# Altium footprint library PAD_3mm without vias.pcblib: 1 footprints
Each footprint in its own frame and in the unit in brackets; x right, y up, seen from the top. Pads: shape width x height; smd on the part's side, far side on the other; paste and mask are expansions set on the pad; w line width, h text height; cw(c..) or ccw(c..) is an arc to the next point about the centre after c.
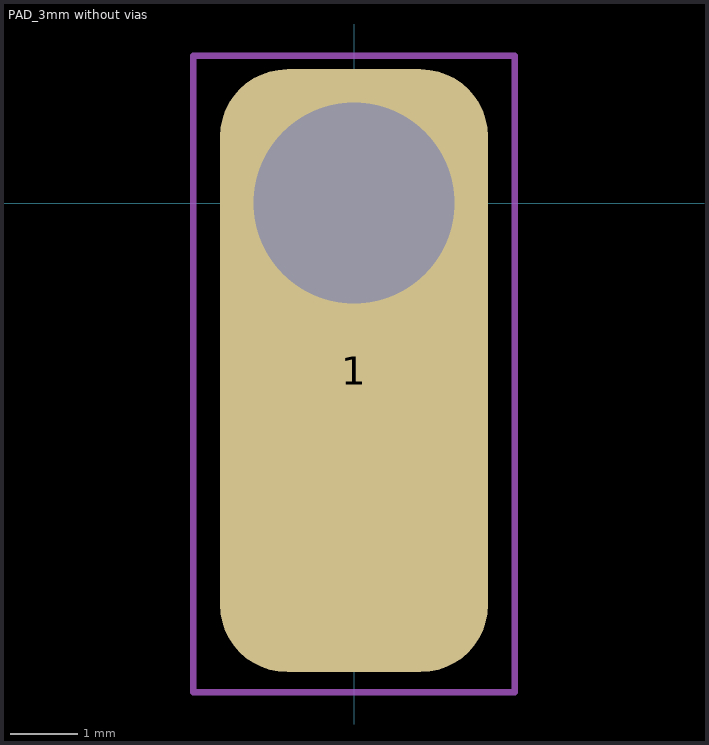
[diagram p0: the footprint, top view; thin cyan lines are the x and y axes]

## PAD_3mm without vias [mm]
pads (2):
  rrect50% 4x9 smd: 1(0,-2.5)
  round 0 hole 3: 1(0,0)
Mechanical 1:
  lines w0.1: -2.4,-7.3 -2.4,2.2 2.4,2.2 2.4,-7.3 -2.4,-7.3